# EAGLE library part MICRO-USB-B (library g-e2e-training)
MINI USB-B Conector Source: www.cypressindustries.com
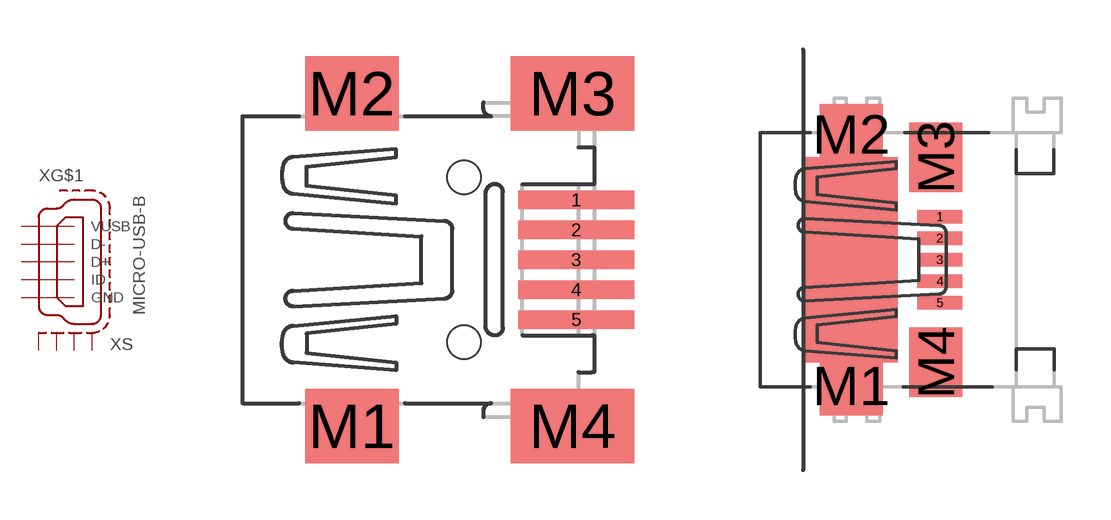
[diagram p1: symbol with the pads of 32005-201; footprints 32005-201, MICRO-B-PAC]

Designator prefix X; gates G$1=MINI-USB-5 S=SHIELD_4

## MICRO-USB-B32005-201 (OC_FARNELL: unknown; OC_NEWARK: unknown)  [32005-201]
1  G$1:VUSB  pas
2  G$1:D-  pas
3  G$1:D+  pas
4  G$1:ID  pas
5  G$1:GND  pas
M1  S:S1  pas
M2  S:S2  pas
M3  S:S3  pas
M4  S:S4  pas

## MICRO-USB-B  [MICRO-B-PAC]
Pads as for 32005-201

## Footprint 32005-201 (pad centres in mm)
MINI USB-B R/A SMT W/ REAR Source: http://www.cypressindustries.com/pdf/32005-201.pdf
smd 3.1 x 0.5: 1 3,1.6; 2 3,0.8; 3 3,0; 4 3,-0.8; 5 3,-1.6
smd 2.5 x 2: M1 -3,-4.45; M2 -3,4.45
smd 3.3 x 2: M3 2.9,4.45; M4 2.9,-4.45
hole 0.9 at 0,2.2
hole 0.9 at 0,-2.2

## Footprint MICRO-B-PAC (pad centres in mm)
MINI USB-B R/A SMT W/O REAR Source: http://www.cypressindustries.com/pdf/32005-301.pdf
smd 1.35 x 0.4: 1 2.675,1.3; 2 2.675,0.65; 3 2.675,0; 4 2.675,-0.65; 5 2.675,-1.3
smd 1.9 x 1.8: M1 0,-3.8; M2 0,3.8
smd 1.6 x 2.1: M3 2.55,3.1; M4 2.55,-3.1